# Altium schematic symbol library Enero_HEADERS.SchLib: 15 symbols
Pins are listed as number, name and electrical type; pins without a type are passive.

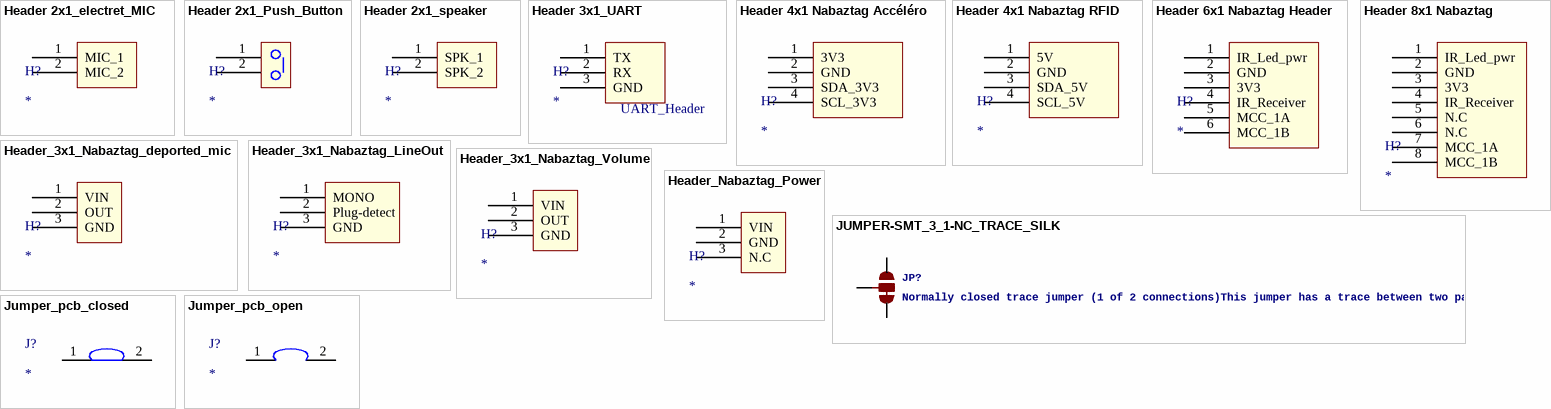
[diagram p0: symbols Header 2x1_electret_MIC to Jumper_pcb_open]

## Header 2x1_electret_MIC
designator H?
footprint HRD2x1_MIC_Nabaztag
pins: 1 MIC_1, 2 MIC_2

## Header 2x1_Push_Button
designator H?
Push_Button header
footprint HDR2x1_Push_button
pins: 1, 2

## Header 2x1_speaker
designator H?
footprint HRD2x1_SPEAKER_Nabaztag
pins: 1 SPK_1, 2 SPK_2

## Header 3x1_UART
designator H?
footprint Header_UART_3x1
pins: 1 TX, 2 RX, 3 GND
text: UART_Header

## Header 4x1 Nabaztag Accéléro
designator H?
footprint NABAZTAG_ACCELERO_HEADER 3V3
pins: 1 3V3, 2 GND, 3 SDA_3V3, 4 SCL_3V3

## Header 4x1 Nabaztag RFID
designator H?
footprint NABAZTAG_RFID_HEADER
pins: 1 5V, 2 GND, 3 SDA_5V, 4 SCL_5V

## Header 6x1 Nabaztag Header
designator H?
footprint HDR6x1_Nabaztag
footprint HDR6x1_Nabaztag - RIGHT
pins: 1 IR_Led_pwr, 2 GND, 3 3V3, 4 IR_Receiver, 5 MCC_1A, 6 MCC_1B

## Header 8x1 Nabaztag
designator H?
footprint HDR8x1 NABAZTAG
footprint HDR8x1 NABAZTAG -RIGHT
pins: 1 IR_Led_pwr, 2 GND, 3 3V3, 4 IR_Receiver, 5 N.C, 6 N.C, 7 MCC_1A, 8 MCC_1B

## Header_3x1_Nabaztag_deported_mic
designator H?
footprint HDR3x1_Nabaztag_deported_mic
pins: 1 VIN, 2 OUT, 3 GND

## Header_3x1_Nabaztag_LineOut
designator H?
footprint Nabaztag_LineOut
pins: 1 MONO, 2 Plug-detect, 3 GND

## Header_3x1_Nabaztag_Volume
designator H?
footprint Nabaztag_Volume_Header
pins: 1 VIN, 2 OUT, 3 GND

## Header_Nabaztag_Power
designator H?
Power Header
footprint HDR3x1_Nabaztag_pwr
pins: 1 VIN, 2 GND, 3 N.C

## JUMPER-SMT_3_1-NC_TRACE_SILK
designator JP?, comment Normally closed trace jumper (1 of 2 connections)This jumper has a trace between two pads so it's normally closed (NC). The other connection is normally open (NO). Use a razor knife to open the connection. For best results follow the IPC guidelines for cutting traces:Reapply solder to reclose the connection, or to close the NO connection.
GateName_1: G$1; SymbolName_1: SMT-JUMPER_3_1-NC_TRACE; DeviceName: _SILK; DeviceSetName: JUMPER-SMT_3_1-NC_TRACE; LibraryName: Sparkfun_jumper; Package: SMT-JUMPER_3_1-NC_TRACE_SILK
footprint Jumper_pcb_3poles
pins: 1, 2, 3

## Jumper_pcb_closed
designator J?
footprint Jumper_pcb_closed 2 (Jumper_pcb_open)
pins: 1, 2

## Jumper_pcb_open
designator J?
footprint Jumper_pcb open 2 (Jumper_pcb_open)
pins: 1, 2